# EAGLE library part TPS2115A (library Power_Utils_Brett)
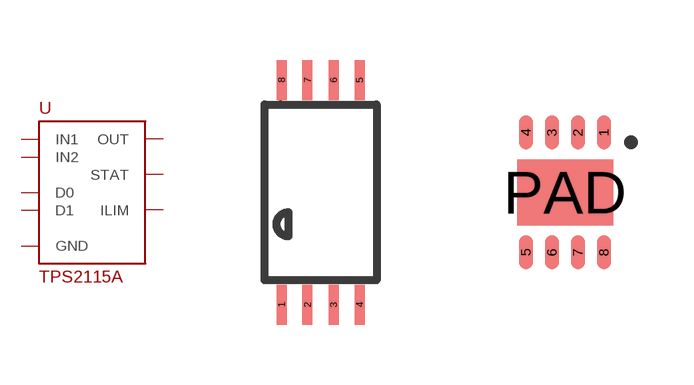
[diagram p0: symbol with the pads of TSSOP-8; footprints TSSOP-8, SON-8]

Designator prefix -

## TPS2115APW  [TSSOP-8]
1  STAT
2  D0
3  D1
4  ILIM
5  GND
6  IN2
7  OUT
8  IN1

## TPS2115ADRB  [SON-8]
1  STAT
2  D0
3  D1
4  ILIM
5  GND
6  IN2
7  OUT
8  IN1
PAD  GND

## Footprint TSSOP-8 (pad centres in mm)
smd 0.25 x 1: 1 -0.975,-2.813; 2 -0.325,-2.813; 3 0.325,-2.813; 4 0.975,-2.813; 5 0.975,2.813; 6 0.325,2.813; 7 -0.325,2.813; 8 -0.975,2.813

## Footprint SON-8 (pad centres in mm)
smd 0.35 x 0.85: 1 0.975,1.5; 2 0.325,1.5; 3 -0.325,1.5; 4 -0.975,1.5; 5 -0.975,-1.5; 6 -0.325,-1.5; 7 0.325,-1.5; 8 0.975,-1.5
smd 2.4 x 1.65: PAD 0,0